# EAGLE library part USB_MICROB_PLUG_MT (library daGloane)
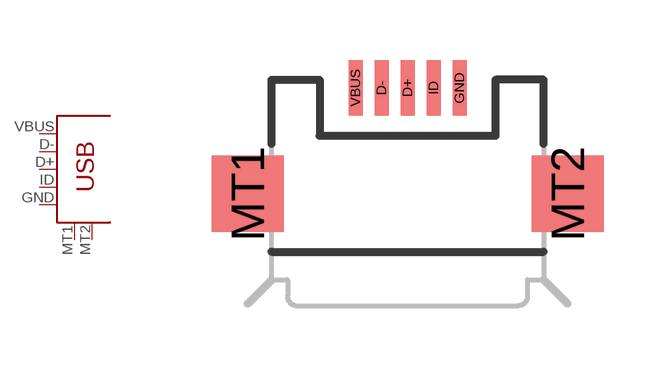
[diagram p10: symbol with the pads of SPARKFUN-CONNECTORS_USB-MICROB; footprint SPARKFUN-CONNECTORS_USB-MICROB]

Designator prefix -

## USB_MICROB_PLUG_MT  [SPARKFUN-CONNECTORS_USB-MICROB]
D+  D+
D-  D-
GND  GND
ID  ID
MT1  MTN1  nc
MT2  MTN2  nc
VBUS  VBUS

## Footprint SPARKFUN-CONNECTORS_USB-MICROB (pad centres in mm)
Micro USB Package
smd 0.35 x 1.4: D+ 0,2.65; D- -0.65,2.65; GND 1.3,2.65; ID 0.65,2.65; VBUS -1.3,2.65
smd 1.8 x 1.9: MT1 -4,0; MT2 4,0